# Altium footprint library SparkFun-IC-Memory.PCBLIB: 10 footprints
Each footprint in its own frame and in the unit in brackets; x right, y up, seen from the top. Pads: shape width x height; smd on the part's side, far side on the other; paste and mask are expansions set on the pad; w line width, h text height; cw(c..) or ccw(c..) is an arc to the next point about the centre after c.
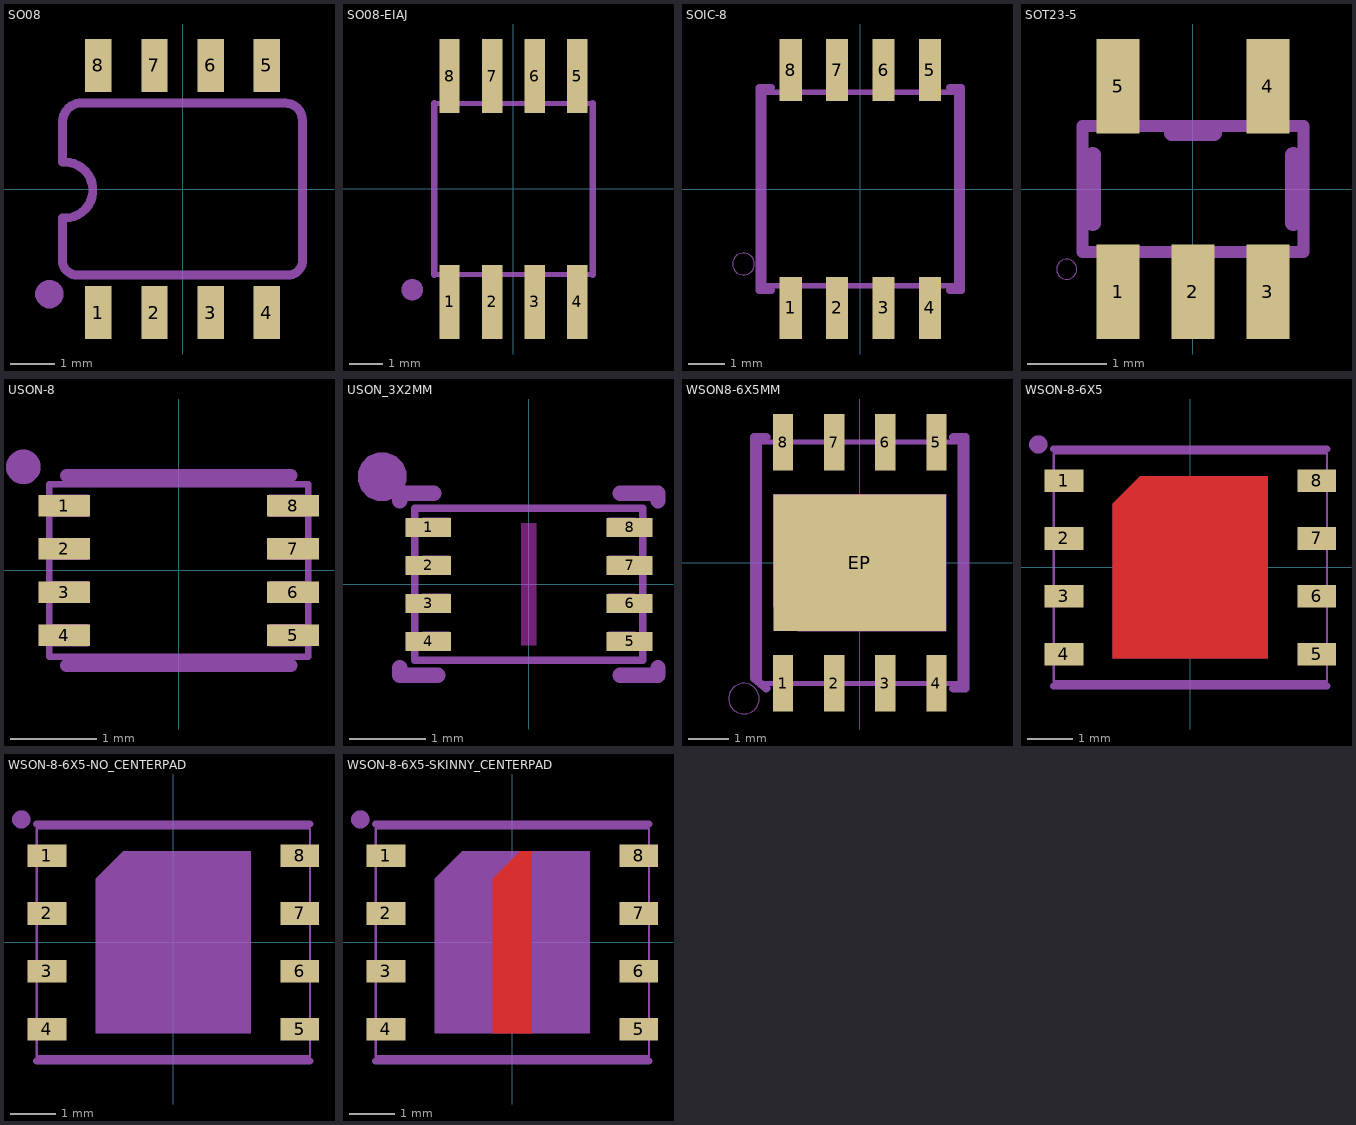
[diagram p0: the footprints below, top view; thin cyan lines are the x and y axes]

## SO08 [mil]
pads (8):
  rect 23.62x47.24 smd: 1(-75,-110.24) 2(-25,-110.24) 3(25,-110.24) 4(75,-110.24) 5(75,110.24) 6(25,110.24) 7(-25,110.24) 8(-75,110.24)
tDocu:
  region: -85,-130 -85,-89.5 -65,-89.5 -65,-130
  region: -35,-130 -35,-89.5 -15,-89.5 -15,-130
  region: 15,-130 15,-89.5 35,-89.5 35,-130
  region: 65,-130 65,-89.5 85,-89.5 85,-130
  region: -35,90 -35,130 -15,130 -15,90
  region: 15,90 15,130 35,130 35,90
  region: 65,90 65,130 85,130 85,90
  region: -85,90 -85,130 -65,130 -65,90
tPlace:
  region: -106.25,-93.75 -106.25,-91.26 -108.15,-86.67 -111.67,-83.15 -116.26,-81.25 -118.75,-81.25 -121.24,-81.25 -125.83,-83.15 -129.35,-86.67 -131.25,-91.26 -131.25,-93.75 -131.25,-96.24 -129.35,-100.83 -125.83,-104.35 -121.24,-106.25 -118.75,-106.25 -116.26,-106.25 -111.67,-104.35 -108.15,-100.83 -106.25,-96.24 -106.25,-93.75
  lines w8: -107,-26 -107,-65.56 ccw(c-93.97,-63.6) -92,-76.63 95.94,-76.63 ccw(c93.97,-63.6) 107,-61.63 107,61.63 ccw(c92,61.63) 92,76.63 -92,76.63 ccw(c-90.03,59.66) -107,57.69 ; -107,24 -107,57.19 ; -105,-26 ccw(c-105,-1) -105,24

## SO08-EIAJ [mil]
pads (8):
  rect 24x87 smd: 1(-75,-133) 2(-25,-133) 3(25,-133) 4(75,-133) 5(75,132) 6(25,132) 7(-25,132) 8(-75,132)
tDocu:
  region: -82,-143 -82,-103 -68,-103 -68,-143
  region: -32,-143 -32,-103 -18,-103 -18,-143
  region: 18,-143 18,-103 32,-103 32,-143
  region: 68,-143 68,-103 82,-103 82,-143
  region: -82,102 -82,142 -68,142 -68,102
  region: -32,102 -32,142 -18,142 -18,102
  region: 18,102 18,142 32,142 32,102
  region: 68,102 68,142 82,142 82,102
  lines w6: -92.99,-100.98 92.99,-100.98 ; -92.99,99.98 92.99,99.98
tPlace:
  region: -106.25,-118.75 -106.25,-116.26 -108.15,-111.67 -111.67,-108.15 -116.26,-106.25 -118.75,-106.25 -121.24,-106.25 -125.83,-108.15 -129.35,-111.67 -131.25,-116.26 -131.25,-118.75 -131.25,-121.24 -129.35,-125.83 -125.83,-129.35 -121.24,-131.25 -118.75,-131.25 -116.26,-131.25 -111.67,-129.35 -108.15,-125.83 -106.25,-121.24 -106.25,-118.75
  lines w8: -92.99,-100.98 -92.99,99.98 ; 92.99,-100.98 92.99,99.98

## SOIC-8 [mil]
pads (8):
  rect 24x67 smd: 1(-75,-128) 2(-25,-128) 3(25,-128) 4(75,-128) 5(75,128) 6(25,128) 7(-25,128) 8(-75,128)
tDocu:
  region: -82,-155.51 -82,-103.94 -68,-103.94 -68,-155.51
  region: -32,-155.51 -32,-103.94 -18,-103.94 -18,-155.51
  region: 18,-155.51 18,-103.94 32,-103.94 32,-155.51
  region: 68,-155.51 68,-103.94 82,-103.94 82,-155.51
  region: 82,155.51 82,103.94 68,103.94 68,155.51
  region: 32,155.51 32,103.94 18,103.94 18,155.51
  region: -18,155.51 -18,103.94 -32,103.94 -32,155.51
  region: -68,155.51 -68,103.94 -82,103.94 -82,155.51
  lines w6: -103.94,-103.94 103.94,-103.94 103.94,103.94 -103.94,103.94 -103.94,-103.94
tPlace:
  circle w0: c-125.75,-80.75 r11.81
  lines w8: -96.06,-108.94 -108.94,-108.94 -108.94,108.94 -96.06,108.94 ; 96.06,-108.94 108.94,-108.94 108.94,108.94 96.06,108.94

## SOT23-5 [mil]
pads (5):
  rect 21.65x47.24 smd: 1(-37.4,-51.19) 2(0,-51.19) 3(37.4,-51.19) 4(37.4,51.19) 5(-37.4,51.19)
tDocu:
  region: -47.24,-59.06 -47.24,-33.46 -27.56,-33.46 -27.56,-59.06
  region: -9.84,-59.06 -9.84,-33.46 9.84,-33.46 9.84,-59.06
  region: 27.56,-59.06 27.56,-33.46 47.24,-33.46 47.24,-59.06
  region: 27.56,33.46 27.56,59.06 47.24,59.06 47.24,33.46
  region: -47.24,33.46 -47.24,59.06 -27.56,59.06 -27.56,33.46
  lines w6: -55.12,-31.5 55.12,-31.5 55.12,31.5 -55.12,31.5 -55.12,-31.5
tPlace:
  circle w0: c-63,-40 r5
  lines w8: -50,-16.91 -50,16.91 ; -10.57,27.91 10.57,27.91 ; 50,-16.91 50,16.91

## USON-8 [mil]
pads (8):
  rect 23.62x9.84 smd: 1(-52.17,29.53) 2(-52.17,9.84) 3(-52.17,-9.84) 4(-52.17,-29.53) 5(52.17,-29.53) 6(52.17,-9.84) 7(52.17,9.84) 8(52.17,29.53)
tDocu:
  region: -59.06,24.61 -59.06,34.45 -41.34,34.45 -41.34,24.61
  region: -59.06,4.92 -59.06,14.76 -41.34,14.76 -41.34,4.92
  region: -59.06,-14.76 -59.06,-4.92 -41.34,-4.92 -41.34,-14.76
  region: -59.06,-34.45 -59.06,-24.61 -41.34,-24.61 -41.34,-34.45
  region: 41.34,-14.76 41.34,-4.92 59.06,-4.92 59.06,-14.76
  region: 41.34,4.92 41.34,14.76 59.06,14.76 59.06,4.92
  region: 41.34,24.61 41.34,34.45 59.06,34.45 59.06,24.61
  region: 41.34,-34.45 41.34,-24.61 59.06,-24.61 59.06,-34.45
  lines w3: -59.06,-39.37 59.06,-39.37 59.06,39.37 -59.06,39.37 -59.06,-39.37
tPlace:
  circle w11.81: c-70.87,47.24 r1.97
  lines w6: -51.18,-43.31 51.18,-43.31 ; -51.18,43.31 51.18,43.31

## USON_3X2MM [mil]
pads (8):
  rect 23.62x9.84 smd: 1(-52.17,29.53) 2(-52.17,9.84) 3(-52.17,-9.84) 4(-52.17,-29.53) 5(52.17,-29.53) 6(52.17,-9.84) 7(52.17,9.84) 8(52.17,29.53)
Top keep-out:
  region: -3.94,-31.5 -3.94,31.5 3.94,31.5 3.94,-31.5
tDocu:
  region: -55.12,24.61 -55.12,34.45 -41.34,34.45 -41.34,24.61
  region: -55.12,-14.76 -55.12,-4.92 -41.34,-4.92 -41.34,-14.76
  region: -55.12,4.92 -55.12,14.76 -41.34,14.76 -41.34,4.92
  region: -55.12,-34.45 -55.12,-24.61 -41.34,-24.61 -41.34,-34.45
  region: 41.34,24.61 41.34,34.45 55.12,34.45 55.12,24.61
  region: 41.34,4.92 41.34,14.76 55.12,14.76 55.12,4.92
  region: 41.34,-14.76 41.34,-4.92 55.12,-4.92 55.12,-14.76
  region: 41.34,-34.45 41.34,-24.61 55.12,-24.61 55.12,-34.45
  lines w3.94: -59.06,-39.37 -59.06,39.37 59.06,39.37 59.06,-39.37 -59.06,-39.37
tPlace:
  region: -76.03,43.26 -73.54,43.26 -68.95,45.16 -65.43,48.68 -63.53,53.27 -63.53,55.76 -63.53,58.25 -65.43,62.84 -68.95,66.36 -73.54,68.26 -76.03,68.26 -78.52,68.26 -83.11,66.36 -86.63,62.84 -88.53,58.25 -88.53,55.76 -88.53,53.27 -86.63,48.68 -83.11,45.16 -78.52,43.26 -76.03,43.26
  lines w8: -66.93,-43.31 -66.93,-47.24 -47.24,-47.24 ; -66.93,43.31 -66.93,47.24 -49.21,47.24 ; 47.24,-47.24 66.93,-47.24 66.93,-43.31 ; 47.24,47.24 66.93,47.24 66.93,43.31

## WSON8-6X5MM [mm]
pads (9):
  rect 0.5x1.4 smd: 1(-1.905,-3) 2(-0.635,-3) 3(0.635,-3) 4(1.905,-3) 5(1.905,3) 6(0.635,3) 7(-0.635,3) 8(-1.905,3)
  rect 4.3x3.4 smd: EP(0,0)
tDocu:
  region: -0.435,-3 -0.835,-3 -0.835,-2.531 -0.835,-2.505 -0.815,-2.457 -0.778,-2.42 -0.73,-2.4 -0.704,-2.4 -0.554,-2.4 -0.531,-2.4 -0.487,-2.418 -0.453,-2.452 -0.435,-2.495 -0.435,-2.519
  region: 0.835,-3 0.435,-3 0.435,-2.531 0.435,-2.505 0.455,-2.457 0.492,-2.42 0.54,-2.4 0.566,-2.4 0.716,-2.4 0.739,-2.4 0.783,-2.418 0.817,-2.452 0.835,-2.495 0.835,-2.519
  region: -1.705,-3 -2.105,-3 -2.105,-2.531 -2.105,-2.505 -2.085,-2.457 -2.048,-2.42 -2,-2.4 -1.974,-2.4 -1.824,-2.4 -1.801,-2.4 -1.757,-2.418 -1.723,-2.452 -1.705,-2.495 -1.705,-2.519
  region: 2.105,-3 1.705,-3 1.705,-2.531 1.705,-2.505 1.725,-2.457 1.762,-2.42 1.81,-2.4 1.836,-2.4 1.986,-2.4 2.009,-2.4 2.053,-2.418 2.087,-2.452 2.105,-2.495 2.105,-2.519
  region: 0.435,3 0.835,3 0.835,2.531 0.835,2.505 0.815,2.457 0.778,2.42 0.73,2.4 0.704,2.4 0.554,2.4 0.531,2.4 0.487,2.418 0.453,2.452 0.435,2.495 0.435,2.519
  region: -0.835,3 -0.435,3 -0.435,2.531 -0.435,2.505 -0.455,2.457 -0.492,2.42 -0.54,2.4 -0.566,2.4 -0.716,2.4 -0.739,2.4 -0.783,2.418 -0.817,2.452 -0.835,2.495 -0.835,2.519
  region: 1.705,3 2.105,3 2.105,2.531 2.105,2.505 2.085,2.457 2.048,2.42 2,2.4 1.974,2.4 1.824,2.4 1.801,2.4 1.757,2.418 1.723,2.452 1.705,2.495 1.705,2.519
  region: -2.105,3 -1.705,3 -1.705,2.531 -1.705,2.505 -1.725,2.457 -1.762,2.42 -1.81,2.4 -1.836,2.4 -1.986,2.4 -2.009,2.4 -2.053,2.418 -2.087,2.452 -2.105,2.495 -2.105,2.519
  region: 2.15,-1.7 -1.548,-1.7 -2.15,-1.098 -2.15,1.7 2.15,1.7
  lines w0.127: -2.5,-3 -2.5,3 2.5,3 2.5,-3 -2.5,-3
tPlace:
  circle w0: c-2.881,-3.381 r0.381
  lines w0.203: -2.326,-3.127 -2.627,-2.873 -2.627,3.127 -2.326,3.127 ; 2.326,-3.127 2.627,-3.127 2.627,3.127 2.326,3.127

## WSON-8-6X5 [mil]
pads (8):
  rect 33.46x19.69 smd: 1(-109.25,75) 2(-109.25,25) 3(-109.25,-25) 4(-109.25,-75) 5(109.25,-75) 6(109.25,-25) 7(109.25,25) 8(109.25,75)
Top:
  region: -66.93,55.12 -43.31,78.74 66.93,78.74 66.93,-78.74 -66.93,-78.74
Top Paste:
  region: -15.75,-15.75 -15.75,15.75 15.75,15.75 15.75,-15.75
Top Solder:
  region: -70.87,58.07 -45.28,83.66 70.87,83.66 70.87,-82.68 -70.87,-82.68
tDocu:
  region: 94.49,17.22 94.49,32.97 118.11,32.97 118.11,17.22
  region: 94.49,-82.68 94.49,-66.93 118.11,-66.93 118.11,-82.68
  region: 94.49,-32.97 94.49,-17.22 118.11,-17.22 118.11,-32.97
  region: 94.49,66.93 94.49,82.68 118.11,82.68 118.11,66.93
  region: -118.11,66.93 -118.11,82.68 -94.49,82.68 -94.49,66.93
  region: -118.11,16.73 -118.11,32.48 -94.49,32.48 -94.49,16.73
  region: -118.11,-32.97 -118.11,-17.22 -94.49,-17.22 -94.49,-32.97
  region: -118.11,-82.68 -118.11,-66.93 -94.49,-66.93 -94.49,-82.68
  region: -66.93,55.12 -43.31,78.74 66.93,78.74 66.93,-78.74 -66.93,-78.74
  lines w1.97: -118.11,-98.43 118.11,-98.43 118.11,98.43 -118.11,98.43 -118.11,-98.43
tPlace:
  circle w11.81: c-131.4,106.3 r1.97
  lines w6: -118.11,-102.36 118.11,-102.36 ; -118.11,102.36 118.11,102.36

## WSON-8-6X5-NO_CENTERPAD [mil]
pads (8):
  rect 33.46x19.69 smd: 1(-109.25,75) 2(-109.25,25) 3(-109.25,-25) 4(-109.25,-75) 5(109.25,-75) 6(109.25,-25) 7(109.25,25) 8(109.25,75)
tDocu:
  region: 94.49,17.22 94.49,32.97 118.11,32.97 118.11,17.22
  region: 94.49,-82.68 94.49,-66.93 118.11,-66.93 118.11,-82.68
  region: 94.49,-32.97 94.49,-17.22 118.11,-17.22 118.11,-32.97
  region: 94.49,66.93 94.49,82.68 118.11,82.68 118.11,66.93
  region: -118.11,66.93 -118.11,82.68 -94.49,82.68 -94.49,66.93
  region: -118.11,16.73 -118.11,32.48 -94.49,32.48 -94.49,16.73
  region: -118.11,-32.97 -118.11,-17.22 -94.49,-17.22 -94.49,-32.97
  region: -118.11,-82.68 -118.11,-66.93 -94.49,-66.93 -94.49,-82.68
  region: -66.93,55.12 -43.31,78.74 66.93,78.74 66.93,-78.74 -66.93,-78.74
  lines w1.97: -118.11,-98.43 118.11,-98.43 118.11,98.43 -118.11,98.43 -118.11,-98.43
tPlace:
  circle w11.81: c-131.4,106.3 r1.97
  lines w6: -118.11,-102.36 118.11,-102.36 ; -118.11,102.36 118.11,102.36

## WSON-8-6X5-SKINNY_CENTERPAD [mil]
pads (8):
  rect 33.46x19.69 smd: 1(-109.25,75) 2(-109.25,25) 3(-109.25,-25) 4(-109.25,-75) 5(109.25,-75) 6(109.25,-25) 7(109.25,25) 8(109.25,75)
Top:
  region: -16.93,55.12 6.69,78.74 16.93,78.74 16.93,-78.74 -16.93,-78.74
Top Paste:
  region: -15.75,-15.75 -15.75,15.75 15.75,15.75 15.75,-15.75
Top Solder:
  region: -20.87,58.07 4.72,83.66 20.87,83.66 20.87,-82.68 -20.87,-82.68
tDocu:
  region: 94.49,17.22 94.49,32.97 118.11,32.97 118.11,17.22
  region: 94.49,-82.68 94.49,-66.93 118.11,-66.93 118.11,-82.68
  region: 94.49,-32.97 94.49,-17.22 118.11,-17.22 118.11,-32.97
  region: 94.49,66.93 94.49,82.68 118.11,82.68 118.11,66.93
  region: -118.11,66.93 -118.11,82.68 -94.49,82.68 -94.49,66.93
  region: -118.11,16.73 -118.11,32.48 -94.49,32.48 -94.49,16.73
  region: -118.11,-32.97 -118.11,-17.22 -94.49,-17.22 -94.49,-32.97
  region: -118.11,-82.68 -118.11,-66.93 -94.49,-66.93 -94.49,-82.68
  region: -66.93,55.12 -43.31,78.74 66.93,78.74 66.93,-78.74 -66.93,-78.74
  lines w1.97: -118.11,-98.43 118.11,-98.43 118.11,98.43 -118.11,98.43 -118.11,-98.43
tPlace:
  circle w11.81: c-131.4,106.3 r1.97
  lines w6: -118.11,-102.36 118.11,-102.36 ; -118.11,102.36 118.11,102.36